# Altium footprint library Mini-Rambo_OLD.PcbLib: 52 footprints (part 1 of 4)
Each footprint in its own frame and in the unit in brackets; x right, y up, seen from the top. Pads: shape width x height; smd on the part's side, far side on the other; paste and mask are expansions set on the pad; w line width, h text height; cw(c..) or ccw(c..) is an arc to the next point about the centre after c.
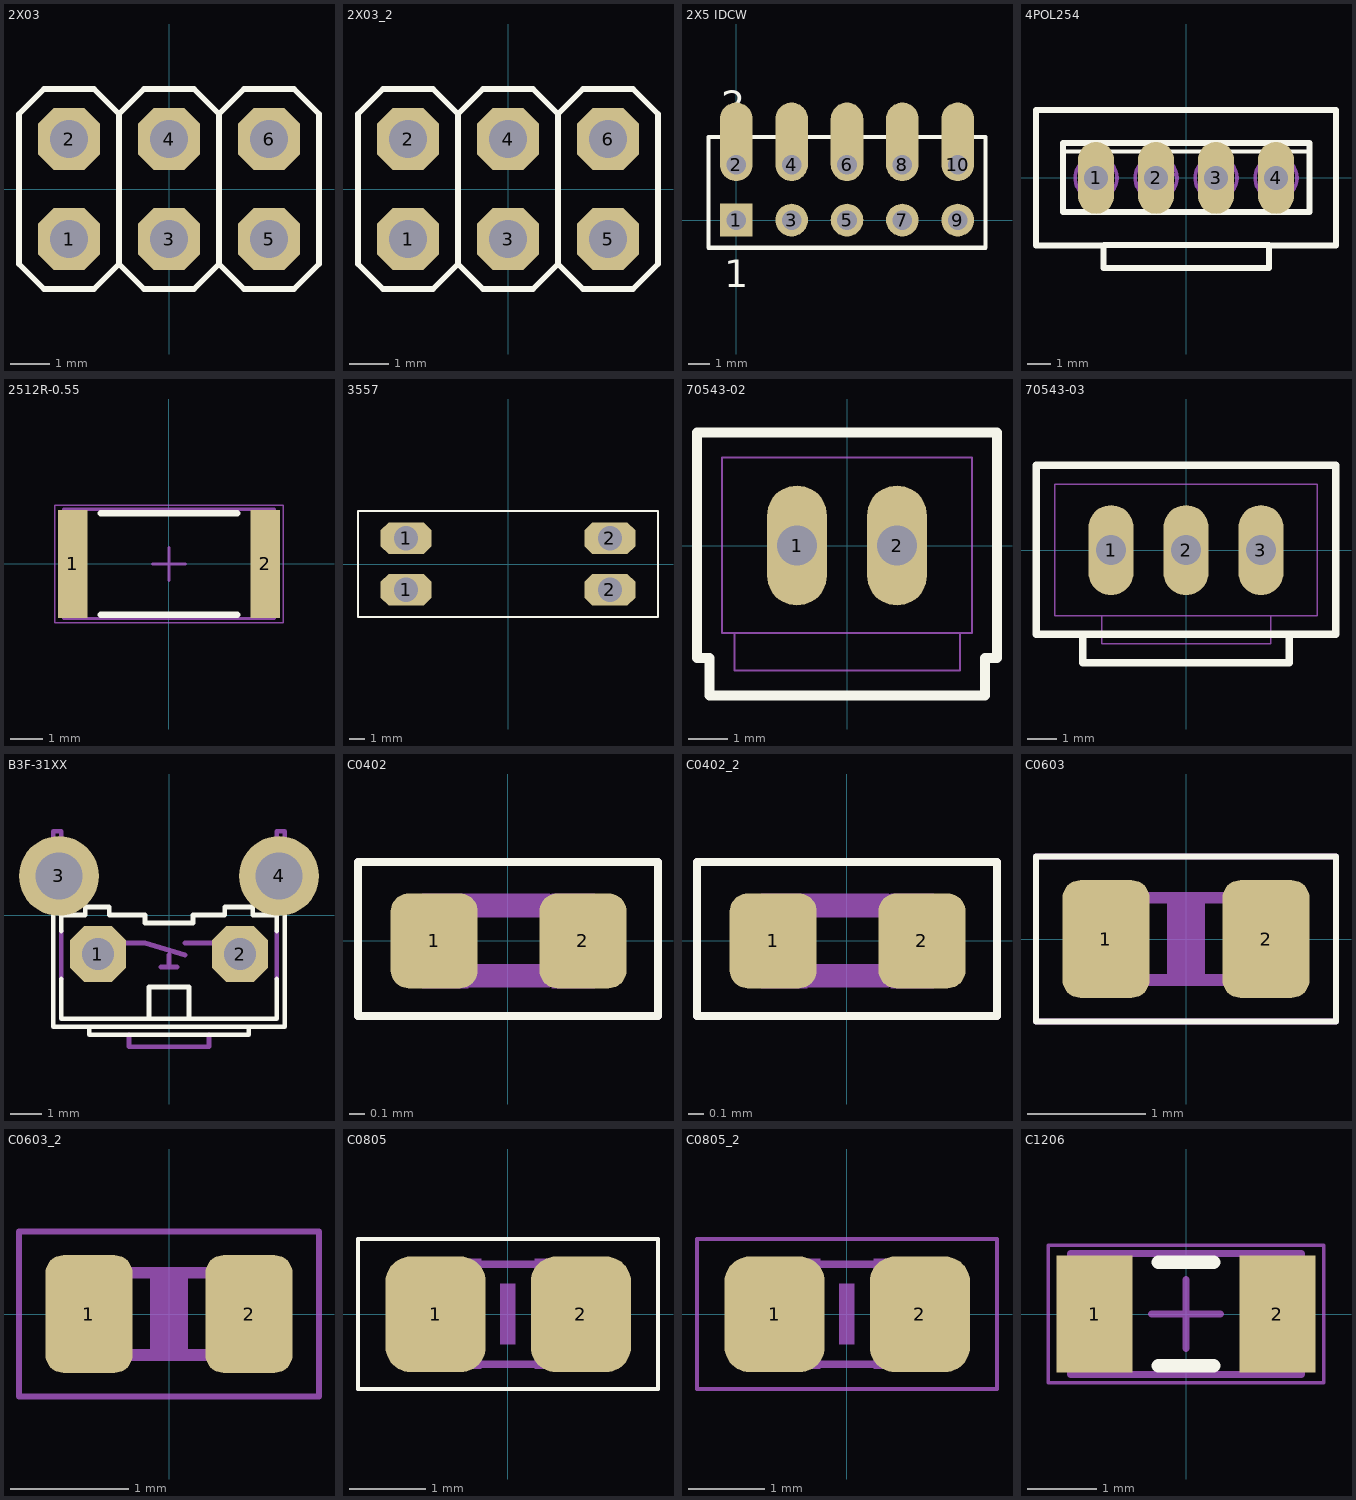
[diagram p0: the footprints below, top view; thin cyan lines are the x and y axes]

## 2X03 [mil]
pads (6):
  oct 62x62 hole 38: 1(-100,-50) 2(-100,50) 3(0,-50) 4(0,50) 5(100,-50) 6(100,50)
Top Overlay:
  lines w6: -50,-75 -75,-100 -125,-100 -150,-75 -150,75 -125,100 -75,100 -50,75 ; -50,-75 -25,-100 25,-100 50,-75 ; -50,-75 -50,75 ; -50,75 -25,100 25,100 50,75 ; 50,-75 50,75 ; 50,-75 75,-100 125,-100 150,-75 150,75 125,100 75,100 50,75
Mechanical 8:
  rectangle: -110,-60 -90,-40
  rectangle: -110,40 -90,60
  rectangle: -10,40 10,60
  rectangle: -10,-60 10,-40
  rectangle: 90,40 110,60
  rectangle: 90,-60 110,-40
3D body: height 100, standoff 0, extent -153,-103 153,103
3D body: height 336.22, standoff 0, extent -115,35 -85,65
3D body: height 336.22, standoff 0, extent -15,35 15,65
3D body: height 336.22, standoff 0, extent 85,35 115,65
3D body: height 336.22, standoff 0, extent -115,-65 -85,-35
3D body: height 336.22, standoff 0, extent -15,-65 15,-35
3D body: height 336.22, standoff 0, extent 85,-65 115,-35

## 2X03_2 [mil]
pads (6):
  oct 62x62 hole 38: 1(-100,-50) 2(-100,50) 3(0,-50) 4(0,50) 5(100,-50) 6(100,50)
Top Overlay:
  lines w6: -50,-75 -50,75 ; -50,-75 -25,-100 25,-100 50,-75 ; -50,-75 -75,-100 -125,-100 -150,-75 -150,75 -125,100 -75,100 -50,75 ; -50,75 -25,100 25,100 50,75 ; 50,-75 75,-100 125,-100 150,-75 150,75 125,100 75,100 50,75 ; 50,-75 50,75
Mechanical 8:
  rectangle: 90,-60 110,-40
  rectangle: 90,40 110,60
  rectangle: -10,-60 10,-40
  rectangle: -10,40 10,60
  rectangle: -110,40 -90,60
  rectangle: -110,-60 -90,-40
3D body: height 336.22, standoff 0, extent 85,-65 115,-35
3D body: height 336.22, standoff 0, extent -15,-65 15,-35
3D body: height 336.22, standoff 0, extent -115,-65 -85,-35
3D body: height 336.22, standoff 0, extent 85,35 115,65
3D body: height 336.22, standoff 0, extent -15,35 15,65
3D body: height 336.22, standoff 0, extent -115,35 -85,65
3D body: height 100, standoff 0, extent -153,-103 153,103

## 2X5 IDCW [mm]
pads (10):
  rect 1.5x1.5 hole 0.9: 1(0,0)
  oval 1.5x3.6 hole 0.9 copper offset 0,1.05: 2(0,2.54) 4(2.54,2.54) 6(5.08,2.54) 8(7.62,2.54) 10(10.16,2.54)
  round 1.5 hole 0.9: 3(2.54,0) 5(5.08,0) 7(7.62,0) 9(10.16,0)
Top Overlay:
  lines w0.2: -1.27,-1.27 -1.27,3.81 11.43,3.81 11.43,-1.27 -1.27,-1.27
  text "2" at -0.693,4.665 h1.27
  text "1" at -0.543,-3.085 h1.27
3D body: height 1.91, standoff 0, extent -1.37,-1.37 11.53,3.91
3D body: height 12.7, standoff 1.91, extent -0.826,-0.826 10.986,3.366

## 4POL254 [mil]
pads (4):
  oval 60x120 hole 40: 1(-150,0) 2(-50,0) 3(50,0) 4(150,0)
Top Overlay:
  lines w6: -200.79,44 201,44
  lines w10: -136.77,-112.22 138.73,-112.22 ; -250,-112.5 -137.5,-112.5 -137.5,-150 138,-150 138,-112.5 250,-112.5 250,113 -250,113 -250,-112.5 ; -205.12,-57.09 -205.12,58 206,58 206,-57.09 -205.12,-57.09
Mechanical 8:
  circle w6: c150,0 r35
  circle w6: c50,0 r35
  circle w6: c-50,0 r35
  circle w6: c-150,0 r35
  lines w6: -175,-20 -130,25 ; -80,-10 -20,5 ; 30,25 70,-25 ; 120,15 180,-15
3D body: height 454.33, standoff 118.11, extent -249.98,-149.98 249.98,112.98
3D body: height 118.11, standoff 0, extent -249.98,-112.48 249.98,112.98

## 2512R-0.55 [mm] "2512 Resistor 6.35mm x 3.2mm x 0.55mm"
height 0.65
pads (2):
  rect 0.9x3.3 smd: 1(-2.95,0) 2(2.95,0)
Top Overlay:
  lines w0.2: -2.1,-1.55 2.1,-1.55 ; -2.1,1.55 2.1,1.55
Mechanical 13:
  lines w0.1: -3.225,-1.675 3.225,-1.675 3.225,1.675 -3.225,1.675 -3.225,-1.675
Mechanical 15:
  lines w0.05: -3.5,-1.8 3.5,-1.8 3.5,1.8 -3.5,1.8 -3.5,-1.8
  lines w0.1: -0.5,0 0.5,0 ; 0,-0.5 0,0.5
3D body: height 0.65, standoff 0, extent 2.725,-1.675 3.225,1.675
3D body: height 0.65, standoff 0, extent -3.225,-1.675 -2.725,1.675
3D body: height 0.65, standoff 0, extent -2.725,-1.675 2.725,1.675

## 3557 [mil] "3557"
pads (4):
  oct 133x83 hole 63: 1(-265,-67) 1(-265,67) 2(265,-67) 2(265,67)
Top Overlay:
  lines w5: -390,-137.5 390,-137.5 390,137.5 -390,137.5 -390,-137.5
3D body: height 275.59, standoff 0, extent -392.5,-140 392.5,140
3D body: height 708.66, standoff 200, extent -353,-73 353,73
3D body: height 299.21, standoff 0, extent -354,-74 -168.31,74
3D body: height 299.21, standoff 0, extent 166.67,-74.98 352.36,73.02

## 70543-02 [mil]
pads (2):
  oval 60x120 hole 40: 1(-50,0) 2(50,0)
Top Overlay:
  lines w10: -150,-112.5 -150,113 150,113 150,-112.5 138,-112.5 138,-150 -137.5,-150 -137.5,-112.5 -150,-112.5
Mechanical 8:
  rectangle: 41,-9.37 60,10
  rectangle: -59.37,-9.37 -40.63,10
  lines w2: -112.5,-87.5 -125,-87.5 -125,88 125,88 125,-87.5 113,-87.5 ; -112.5,-87.5 113,-87.5 ; -112.5,-87.5 -112.5,-125 113,-125 113,-87.5
  text "1" at -112.5,-62.5 h62
3D body: height 118.11, standoff 0, extent -149.98,-112.48 149.98,112.98
3D body: height 450, standoff 118.11, extent -149.98,-149.98 149.98,112.98

## 70543-03 [mil]
pads (3):
  oval 60x120 hole 40: 1(-100,0) 2(0,0) 3(100,0)
Top Overlay:
  lines w10: -137.5,-112.5 138,-112.5 ; -137.5,-112.5 -200,-112.5 -200,113 200,113 200,-112.5 138,-112.5 ; -137.5,-112.5 -137.5,-150 138,-150 138,-112.5
Mechanical 8:
  rectangle: -9.37,-9.37 10,10
  rectangle: -109.37,-9.37 -90.63,10
  rectangle: 91,-9.37 110,10
  lines w2: -112.5,-87.5 -175,-87.5 -175,88 175,88 175,-87.5 113,-87.5 ; -112.5,-87.5 113,-87.5 ; -112.5,-87.5 -112.5,-125 113,-125 113,-87.5
  text "1" at -162.5,-62.5 h62
3D body: height 450, standoff 0, extent -199.98,-112.48 199.98,112.98
3D body: height 450, standoff 118.11, extent -137.48,-149.98 137.98,-112.52

## B3F-31XX [mil]
pads (4):
  oct 70x70 hole 40: 1(-89,-49) 2(89,-49)
  round 100 hole 59: 3(-138,49) 4(138,49)
Top Overlay:
  lines w6: -145,0 -145,-140 100,-140 ; -135,-80 -135,-130 -25,-130 ; -135,-20 -135,0 -105,0 -105,10 -75,10 -75,0 -30,0 -30,-10 30,-10 30,0 70,0 70,10 105,10 105,0 135,0 135,-20 ; -100,-140 -100,-150 -50,-150 50,-150 100,-150 100,-140 ; 135,-80 135,-130 25,-130 ; 145,0 145,-140 100,-140 ; -25,-130 25,-130 ; -25,-130 -25,-90 25,-90 25,-130
Mechanical 8:
  lines w6: -145,0 -145,105 -135,105 -135,0 ; -135,-80 -135,-20 ; -65,-35 -30,-35 20,-50 ; -50,-150 -50,-165 50,-165 50,-150 ; -10,-65 0,-65 ; 0,-50 0,-65 ; 10,-65 0,-65 ; 20,-35 65,-35 ; 135,-80 135,-20 ; 135,0 135,105 145,105 145,0
3D body "c-1571610-2-c-3d.stp": height 303.15, standoff -137.8, extent -165.35,-200 165.35,109.06

## C0402 [mil]
pads (2):
  rrect40% 22x24 smd: 1(-18.7,0) 2(19,0)
Top Overlay:
  lines w2: -37.99,-19.02 38,-19.02 38,20 -37.99,20 -37.99,-19.02
Mechanical 8:
  rectangle: 11,-12 22,12
  rectangle: -21.8,-12 -9.98,12
  lines w6: -9.65,-8.82 10,-8.82 ; -9.65,9 10,9
Mechanical 15:
  lines w2: -37.99,-19.02 -37.99,20 38,20 38,-19.02 -37.99,-19.02
3D body: height 19.68, standoff 0, extent -20,-10 20,10

## C0402_2 [mil]
pads (2):
  rrect40% 22x24 smd: 1(-18.7,0) 2(19,0)
Top Overlay:
  lines w2: -37.99,-19.02 -37.99,20 38,20 38,-19.02 -37.99,-19.02
Mechanical 8:
  rectangle: -21.8,-12 -9.98,12
  rectangle: 11,-12 22,12
  lines w6: -9.65,-8.82 10,-8.82 ; -9.65,9 10,9
Mechanical 15:
  lines w2: -37.99,-19.02 38,-19.02 38,20 -37.99,20 -37.99,-19.02
3D body: height 19.68, standoff 0, extent -20,-10 20,10

## C0603 [mm]
pads (2):
  rrect40% 0.74x1 smd: 1(-0.68,0) 2(0.68,0)
Top Overlay:
  lines w0.051: -1.275,-0.7 1.275,-0.7 1.275,0.7 -1.275,0.7 -1.275,-0.7
Mechanical 6:
  rectangle: -0.16,-0.299 0.16,0.301
Mechanical 8:
  rectangle: 0.451,-0.4 0.801,0.4
  rectangle: -0.799,-0.4 -0.449,0.4
  lines w0.1: -0.45,0.35 0.45,0.35
  lines w0.102: -0.45,-0.35 0.45,-0.35
Mechanical 15:
  lines w0.051: -1.275,-0.7 -1.275,0.7 1.275,0.7 1.275,-0.7 -1.275,-0.7
3D body: height 0.8, standoff 0, extent -0.8,-0.4 0.8,0.4

## C0603_2 [mm]
pads (2):
  rrect40% 0.74x1 smd: 1(-0.68,0) 2(0.68,0)
Mechanical 6:
  rectangle: -0.16,-0.296 0.16,0.304
Mechanical 8:
  rectangle: 0.449,-0.4 0.799,0.4
  rectangle: -0.8,-0.4 -0.45,0.4
  lines w0.1: -0.45,0.35 0.45,0.35
  lines w0.102: -0.45,-0.35 0.45,-0.35
Mechanical 15:
  lines w0.051: -1.275,-0.7 -1.275,0.7 1.275,0.7 1.275,-0.7 -1.275,-0.7
3D body: height 0.8, standoff 0, extent -0.8,-0.4 0.8,0.4

## C0805 [mil]
pads (2):
  rrect50% 52x60 smd: 1(-37.4,0) 2(38,0)
Top Overlay:
  lines w2: -77.68,-38.7 -77.68,39 78,39 78,-38.7 -77.68,-38.7
Mechanical 6:
  rectangle: -3.94,-15.75 4,16
Mechanical 8:
  rectangle: -43,-28.5 -13.47,29
  rectangle: 14,-28.5 44,29
  lines w4: -15,26 15,26 ; -14.02,-25.98 15,-25.98
Mechanical 15:
  lines w2: -77.68,-38.7 78,-38.7 78,39 -77.68,39 -77.68,-38.7
3D body: height 35.43, standoff 0, extent -40,-30 40,30

## C0805_2 [mil]
pads (2):
  rrect50% 52x60 smd: 1(-37.4,0) 2(38,0)
Mechanical 6:
  rectangle: -3.94,-15.75 4,16
Mechanical 8:
  rectangle: 14,-28.5 44,29
  rectangle: -43,-28.5 -13.47,29
  lines w4: -15,26 15,26 ; -14.02,-25.98 15,-25.98
Mechanical 15:
  lines w2: -77.68,-38.7 -77.68,39 78,39 78,-38.7 -77.68,-38.7
3D body: height 35.43, standoff 0, extent -40,-30 40,30

## C1206 [mm]
height 1.6
pads (2):
  rect 1.1x1.7 smd: 1(-1.325,0) 2(1.325,0)
Top Overlay:
  lines w0.2: -0.4,-0.75 0.4,-0.75 ; -0.4,0.75 0.4,0.75
Mechanical 13:
  lines w0.1: -1.675,-0.875 -1.675,0.875 1.675,0.875 1.675,-0.875 -1.675,-0.875
Mechanical 15:
  lines w0.05: -2,-1 -2,1 2,1 2,-1 -2,-1
  lines w0.1: -0.5,0 0.5,0 ; 0,-0.5 0,0.5
3D body: height 1.6, standoff 0, extent -1.125,-0.875 1.125,0.875
3D body: height 1.6, standoff 0, extent -1.675,-0.875 -1.125,0.875
3D body: height 1.6, standoff 0, extent 1.125,-0.875 1.675,0.875